# EAGLE library part SARA-G350 (library IntegratedLib)
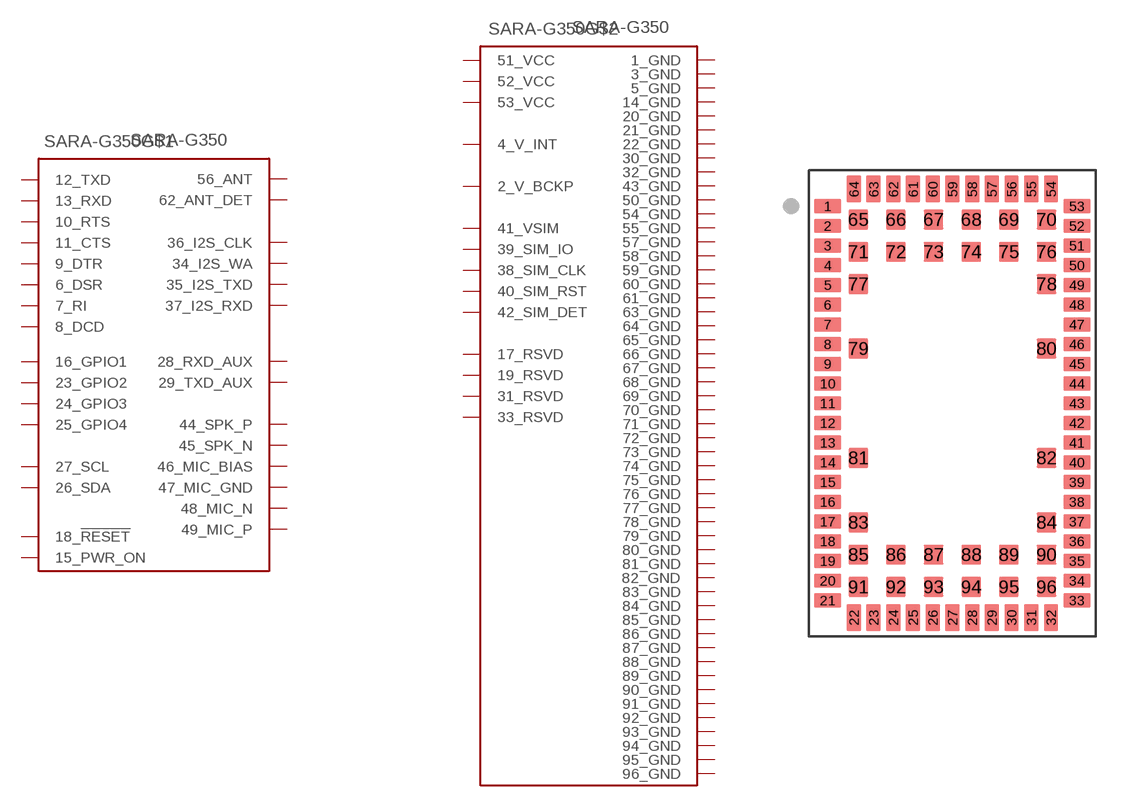
[diagram p16: symbol with the pads of SARA96; footprint SARA96]

Designator prefix SARA-G350; gates G$1=SARA-XXA G$2=SARA-XXB

## SARA-G350  [SARA96]
1  G$2:1_GND  pwr
2  G$2:2_V_BCKP  pwr
3  G$2:3_GND  pwr
4  G$2:4_V_INT  pwr
5  G$2:5_GND  pwr
6  G$1:6_DSR  out
7  G$1:7_RI  out
8  G$1:8_DCD  out
9  G$1:9_DTR  in
10  G$1:10_RTS  in
11  G$1:11_CTS  out
12  G$1:12_TXD  in
13  G$1:13_RXD  out
14  G$2:14_GND  pwr
15  G$1:15_PWR_ON  in
16  G$1:16_GPIO1
17  G$2:17_RSVD  nc
18  G$1:18_!RESET  in
19  G$2:19_RSVD  nc
20  G$2:20_GND  pwr
21  G$2:21_GND  pwr
22  G$2:22_GND  pwr
23  G$1:23_GPIO2
24  G$1:24_GPIO3
25  G$1:25_GPIO4
26  G$1:26_SDA
27  G$1:27_SCL  out
28  G$1:28_RXD_AUX
29  G$1:29_TXD_AUX
30  G$2:30_GND  pwr
31  G$2:31_RSVD  nc
32  G$2:32_GND  nc
33  G$2:33_RSVD  nc
34  G$1:34_I2S_WA
35  G$1:35_I2S_TXD  out
36  G$1:36_I2S_CLK
37  G$1:37_I2S_RXD  in
38  G$2:38_SIM_CLK  out
39  G$2:39_SIM_IO
40  G$2:40_SIM_RST  out
41  G$2:41_VSIM  pwr
42  G$2:42_SIM_DET  in
43  G$2:43_GND  pwr
44  G$1:44_SPK_P
45  G$1:45_SPK_N
46  G$1:46_MIC_BIAS
47  G$1:47_MIC_GND
48  G$1:48_MIC_N
49  G$1:49_MIC_P
50  G$2:50_GND  pwr
51  G$2:51_VCC  pwr
52  G$2:52_VCC  pwr
53  G$2:53_VCC  pwr
54  G$2:54_GND  pwr
55  G$2:55_GND  pwr
56  G$1:56_ANT
57  G$2:57_GND  pwr
58  G$2:58_GND  pwr
59  G$2:59_GND  pwr
60  G$2:60_GND  pwr
61  G$2:61_GND  pwr
62  G$1:62_ANT_DET  in
63  G$2:63_GND  pwr
64  G$2:64_GND  pwr
65  G$2:65_GND  pwr
66  G$2:66_GND  pwr
67  G$2:67_GND  pwr
68  G$2:68_GND  pwr
69  G$2:69_GND  pwr
70  G$2:70_GND  pwr
71  G$2:71_GND  pwr
72  G$2:72_GND  pwr
73  G$2:73_GND  pwr
74  G$2:74_GND  pwr
75  G$2:75_GND  pwr
76  G$2:76_GND  pwr
77  G$2:77_GND  pwr
78  G$2:78_GND  pwr
79  G$2:79_GND  pwr
80  G$2:80_GND  pwr
81  G$2:81_GND  pwr
82  G$2:82_GND  pwr
83  G$2:83_GND  pwr
84  G$2:84_GND  pwr
85  G$2:85_GND  pwr
86  G$2:86_GND  pwr
87  G$2:87_GND  pwr
88  G$2:88_GND  pwr
89  G$2:89_GND  pwr
90  G$2:90_GND  pwr
91  G$2:91_GND  pwr
92  G$2:92_GND  pwr
93  G$2:93_GND  pwr
94  G$2:94_GND  pwr
95  G$2:95_GND  pwr
96  G$2:96_GND  pwr

## Footprint SARA96 (pad centres in mm)
smd 1.5 x 0.8: 1 -6.95,11.6; 2 -6.95,10.5; 3 -6.95,9.4; 4 -6.95,8.3; 5 -6.95,7.2; 6 -6.95,6.1; 7 -6.95,5; 8 -6.95,3.9; 9 -6.95,2.8; 10 -6.95,1.7; 11 -6.95,0.6; 12 -6.95,-0.5; 13 -6.95,-1.6; 14 -6.95,-2.7; 15 -6.95,-3.8; 16 -6.95,-4.9; 17 -6.95,-6; 18 -6.95,-7.1; 19 -6.95,-8.2; 20 -6.95,-9.3; 21 -6.95,-10.4; 33 6.95,-10.4; 34 6.95,-9.3; 35 6.95,-8.2; 36 6.95,-7.1; 37 6.95,-6; 38 6.95,-4.9; 39 6.95,-3.8; 40 6.95,-2.7; 41 6.95,-1.6; 42 6.95,-0.5; 43 6.95,0.6; 44 6.95,1.7; 45 6.95,2.8; 46 6.95,3.9; 47 6.95,5; 48 6.95,6.1; 49 6.95,7.2; 50 6.95,8.3; 51 6.95,9.4; 52 6.95,10.5; 53 6.95,11.6
smd 0.8 x 1.5: 22 -5.5,-11.35; 23 -4.4,-11.35; 24 -3.3,-11.35; 25 -2.2,-11.35; 26 -1.1,-11.35; 27 0,-11.35; 28 1.1,-11.35; 29 2.2,-11.35; 30 3.3,-11.35; 31 4.4,-11.35; 32 5.5,-11.35; 54 5.5,12.55; 55 4.4,12.55; 56 3.3,12.55; 57 2.2,12.55; 58 1.1,12.55; 59 0,12.55; 60 -1.1,12.55; 61 -2.2,12.55; 62 -3.3,12.55; 63 -4.4,12.55; 64 -5.5,12.55
smd 1.1 x 1.1: 65 -5.25,10.85; 66 -3.15,10.85; 67 -1.05,10.85; 68 1.05,10.85; 69 3.15,10.85; 70 5.25,10.85; 71 -5.25,9.05; 72 -3.15,9.05; 73 -1.05,9.05; 74 1.05,9.05; 75 3.15,9.05; 76 5.25,9.05; 77 -5.25,7.25; 78 5.25,7.25; 79 -5.25,3.65; 80 5.25,3.65; 81 -5.25,-2.45; 82 5.25,-2.45; 83 -5.25,-6.05; 84 5.25,-6.05; 85 -5.25,-7.85; 86 -3.15,-7.85; 87 -1.05,-7.85; 88 1.05,-7.85; 89 3.15,-7.85; 90 5.25,-7.85; 91 -5.25,-9.65; 92 -3.15,-9.65; 93 -1.05,-9.65; 94 1.05,-9.65; 95 3.15,-9.65; 96 5.25,-9.65